# Altium footprint library PCB0131.PcbLib: 13 footprints
Each footprint in its own frame and in the unit in brackets; x right, y up, seen from the top. Pads: shape width x height; smd on the part's side, far side on the other; paste and mask are expansions set on the pad; w line width, h text height; cw(c..) or ccw(c..) is an arc to the next point about the centre after c.
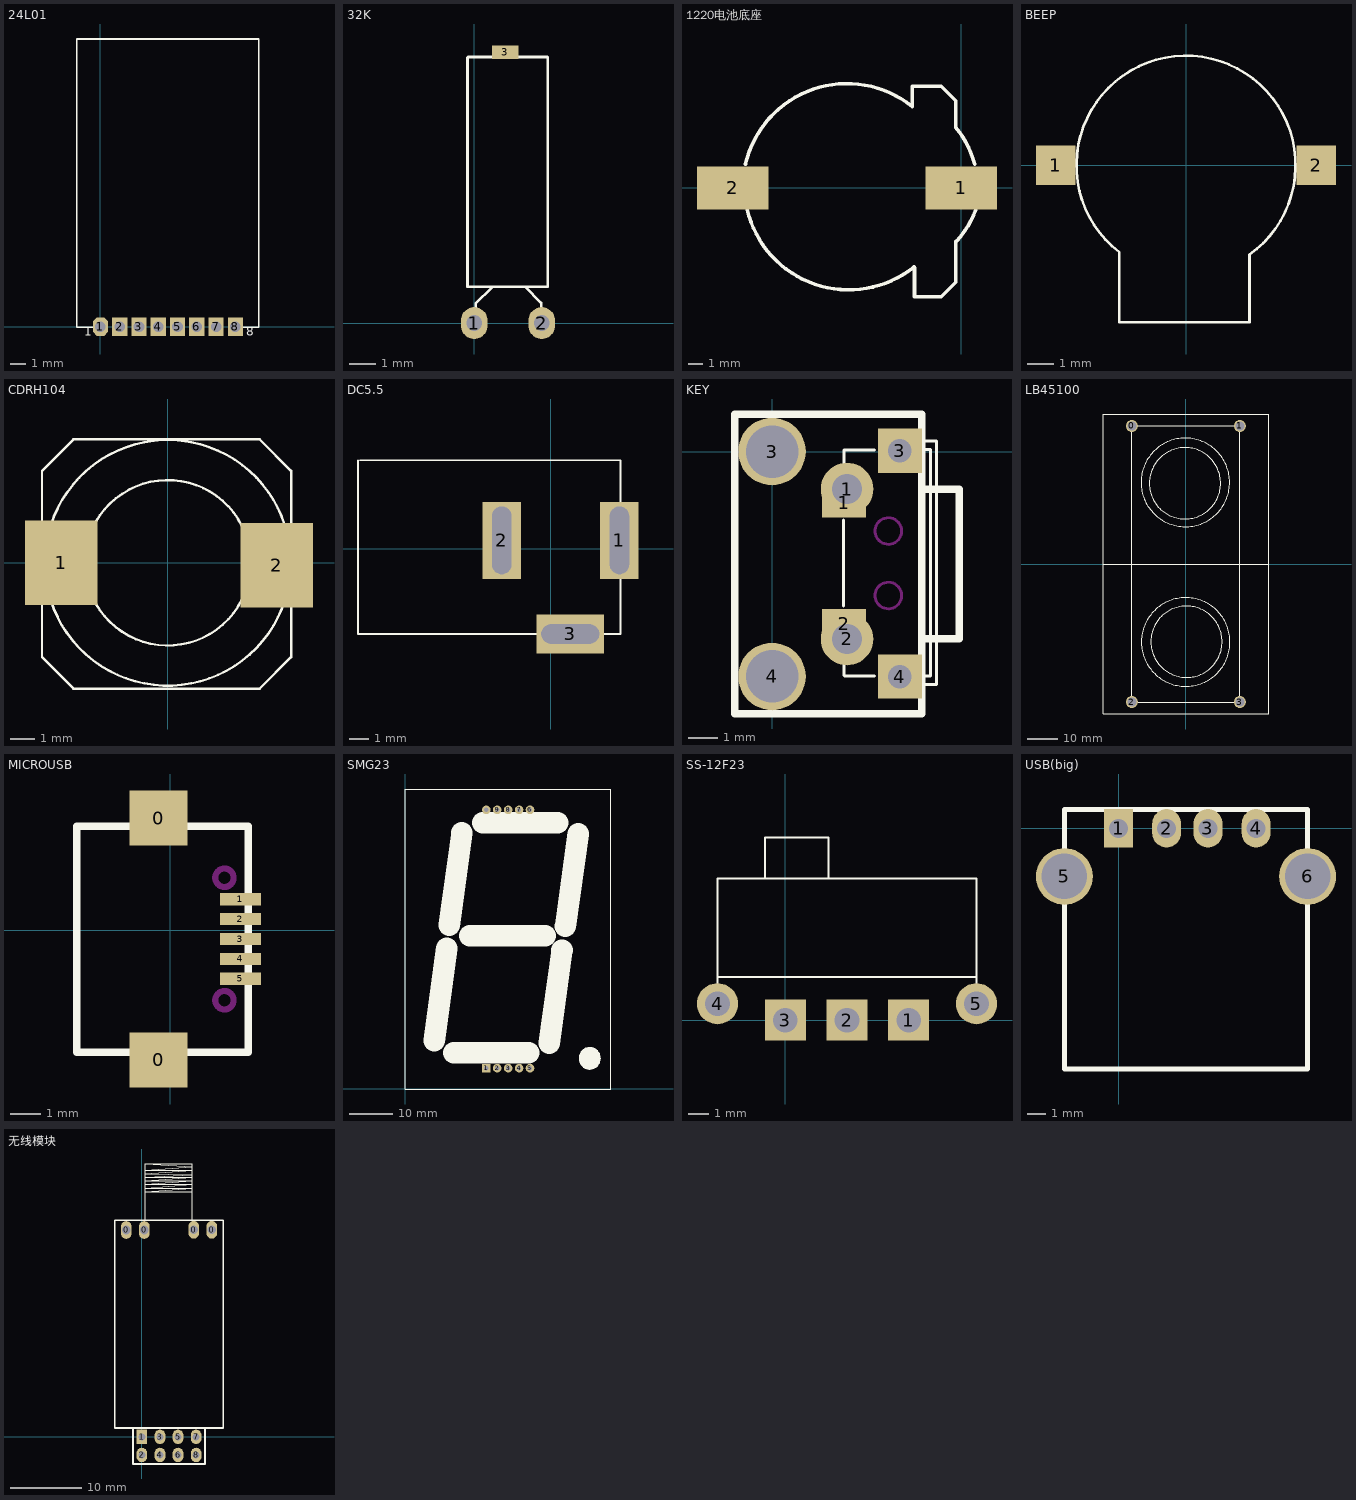
[diagram p0: the footprints below, top view; thin cyan lines are the x and y axes]

## 24L01 [mm]
pads (8):
  oct 1x1.2 hole 0.7: 1(0,0)
  rect 1x1.2 hole 0.7: 2(1.27,0) 3(2.54,0) 4(3.81,0) 5(5.08,0) 6(6.35,0) 7(7.62,0) 8(8.89,0)
Top Overlay:
  lines w0.1: -0.015,-0.049 -1.565,-0.049 -1.565,18.951 10.435,18.951 10.435,-0.049 8.885,-0.049
  text "1" at -1.067,-0.813 h1
  text "8" at 9.601,-0.787 h1

## 32K [mm]
pads (3):
  oval 1x1.2 hole 0.6: 1(0,0) 2(2.54,0)
  rect 1x0.5 smd: 3(1.168,10.185)
Top Overlay:
  lines w0.1: 0.051,0.533 0.051,0.737 0.66,1.346 ; 1.905,1.372 2.515,0.762 2.515,0.559 ; -0.254,1.372 -0.254,9.982 -0.229,10.008 2.743,10.008 2.769,9.982 2.769,1.372 -0.254,1.372

## 1220电池底座 [mm]
pads (2):
  rect 5x3 smd: 1(0,0) 2(-16,0)
Top Overlay:
  lines w0.254: -15.106,1.672 cw(c-8,0) -3.44,5.7 ; -14.985,-1.524 ccw(c-7.882,0.16) -3.312,-5.532 ; -3.428,5.69 -3.428,7.112 -1.396,7.112 -0.38,6.096 -0.38,4.242 ; -3.276,-5.588 -3.276,-7.62 -1.396,-7.62 -0.38,-6.604 -0.38,-3.74 ; -0.389,4.23 cw(c-5.46,0) 0.932,1.662 ; -0.347,-3.74 ccw(c-5.179,0.761) 1.017,-1.524

## BEEP [mm] "蜂鸣器"
height 6
pads (2):
  rect 1.5x1.5 smd: 1(-4.953,0) 2(4.953,0)
Top Overlay:
  lines w0.1: 2.402,-3.403 ccw(c0,0) -2.54,-3.302 -2.54,-5.969 2.413,-5.969 2.413,-3.429

## CDRH104 [mm]
pads (2):
  rect 3x3.5 smd: 1(-4.4,0) 2(4.5,-0.1)
Top Overlay:
  circle w0.1: c0,0 r3.421
  circle w0.1: c0,0 r5.08
  lines w0.1: -5.2,3.5 -5.2,3.8 ; -5.2,-3.9 -5.2,3.8 ; -5.2,-3.9 -3.9,-5.2 ; -5.2,-3.9 -3.9,-5.2 ; -5.2,3.8 -3.9,5.1 ; -5.2,3.8 -3.9,5.1 ; -3.9,-5.2 3.8,-5.2 ; -3.9,5.1 3.8,5.1 ; 3.8,-5.2 5.1,-3.9 ; 3.8,-5.2 5.1,-3.9 ; 3.8,5.1 5.1,3.8 ; 3.8,5.1 5.1,3.8 ; 5.1,-3.9 5.1,3.8

## DC5.5 [mm]
height 11
pads (3):
  rect 2x4 hole 1 slot 3.5 at 90 deg: 1(3.548,0.425) 2(-2.548,0.425)
  rect 3.5x2 hole 1 slot 3 at 0 deg: 3(1.003,-4.425)
Top Overlay:
  lines w0.1: -9.997,4.575 -9.997,-4.425 1.003,-4.425 ; -9.897,4.575 1.003,4.575 3.603,4.575 3.603,-4.425 -1.097,-4.425

## KEY [mil]
pads (8):
  rect 59.06x39.37 smd: 1(96,-68) 2(96,-229.42)
  round 70 hole 40: 1(100,-50) 2(100,-250)
  round 90 hole 70: 3(0,0) 4(0,-300)
  rect 59.06x59.06 hole 31.5: 3(170.56,0.9) 4(170.56,-300.1)
Top Overlay:
  lines w3.94: 95.56,-206.1 95.56,-91.1 ; 96,-254.1 96,-298.54 96.56,-299.1 136.56,-299.1 ; 96,-45.1 96,1.9 136.56,1.9 ; 202.16,-310.5 219.43,-310.5 219.43,-148.1 219.43,14.3 205.16,14.3 ; 202.76,-299.3 211.56,-299.3 211.56,-148.71 ; 204.97,2.49 211.56,2.49 211.56,-148.1
  lines w10: 200,-250 250,-250 250,-50 200,-50 ; -50,-350 200,-350 200,50 -50,50 -50,-350
Keep-Out Layer:
  circle w3.94: c155.06,-192.02 r17.72
  circle w3.94: c155.06,-106.02 r17.72

## LB45100 [mm]
pads (4):
  round 4 hole 3: 0(-18,46) 1(18,46) 2(-18,-46) 3(18,-46)
Top Overlay:
  circle w0.1: c-0.063,-26 r14.763
  circle w0.1: c0.215,-25.9 r11.885
  circle w0.1: c-0.285,26.9 r11.885
  circle w0.1: c-0.163,27.2 r14.763
  lines w0.1: 27.6,0 0,0 -27.5,0 ; -27.5,0 -27.5,-50 27.6,-50 27.6,50 -23.7,50 -27.5,50 -27.5,46.2 -27.5,0 ; -18,-46 -18,46 13.6,46 18,46 18,41.6 18,-46 -18,-46

## MICROUSB [mm]
pads (7):
  rect 1.9x1.8 smd: 0(-0.376,-4.231) 0(-0.376,3.669)
  rect 1.35x0.4 smd: 1(2.3,1.019) 2(2.3,0.369) 3(2.3,-0.281) 4(2.3,-0.931) 5(2.3,-1.581)
Top Overlay:
  lines w0.254: -3.046,-3.981 2.554,-3.981 2.554,3.402 -3.046,3.402 -3.046,-3.967
Keep-Out Layer:
  circle w0.2: c1.775,1.719 r0.3
  circle w0.2: c1.775,-2.281 r0.3

## SMG23 [mm]
pads (10):
  rect 2x2 hole 1: 1(18.847,4.826)
  round 2 hole 1: 2(21.387,4.826) 3(23.927,4.826) 4(26.467,4.826) 5(29.007,4.826) 6(29.007,64.826) 7(26.467,64.826) 8(23.927,64.826) 9(21.387,64.826) 10(18.847,64.826)
Top Overlay:
  circle w0.1: c42.9,7.1 r2.5
  circle w0.5: c42.9,7.1 r2.3
  rectangle: 44,8.7 44.2,9.25
  rectangle: 43.4,9 43.8,9.4
  rectangle: 43,9 43.4,9.6
  rectangle: 42.6,9.2 43,9.6
  rectangle: 42.2,4.7 43.6,5
  rectangle: 41.3,5.2 41.8,6.1
  rectangle: 41.25,8.5 41.75,9
  rectangle: 41,5.5 41.75,6
  rectangle: 43.75,5.5 44.75,6.75
  rectangle: 40.75,5.75 42,6.75
  rectangle: 43.75,7.5 44.75,8.75
  rectangle: 41,7.5 42,8.5
  rectangle: 40.5,6.5 45.25,7.75
  rectangle: 41.75,5 44,9.25
  lines w0.1: -0.003,-0.024 -0.003,69.676 47.797,69.676 47.797,-0.024 28.699,-0.024 -0.003,-0.024
  lines w0.2: 41.2,8.8 41,8.6 41,8.5 40.8,8.3 41,8.3 41.1,8.4 42.9,8.4
  lines w0.5: 42.9,8.4 45,6.3 45,7.7 44.9,7.8 44.9,8.1 44.2,8.8 42.7,8.8 42.3,9.2 41.95,9.2 41.3,8.55 41.3,8.4 40.8,7.9 40.8,6.2 41.5,5.5 42,5 43.6,5 43.9,5.3 44.2,5.3 44.7,5.8 44.7,6.6 44.75,6.65 44.75,6.75
  lines w5: 6.75,11.16 9.694,32.667 ; 10.25,38 13.194,59.508 ; 11.25,8.42 28.75,8.42 ; 15,35.536 32.5,35.536 ; 18,61.786 35.5,61.786 ; 33.5,10.66 36.444,32.167 ; 37.25,37.75 40.194,59.258

## SS-12F23 [mm]
pads (5):
  rect 2x2 hole 1.2: 1(6,0) 2(3,0) 3(0,0)
  round 2 hole 1.2: 4(-3.3,0.8) 5(9.3,0.8)
Top Overlay:
  lines w0.1: -3.3,0 -3.3,0.8 -3.3,6.9 9.3,6.9 9.3,0.8 9.3,0 ; -3.3,2.1 9.3,2.1 ; -1,6.9 -1,8.9 2.1,8.9 2.1,6.9

## USB(big) [mil]
pads (6):
  rect 60x80 hole 39.37: 1(0,0)
  oval 60x80 hole 39.37: 2(100,0) 3(186,0) 4(286,0)
  round 118.11 hole 94.49: 5(-112.43,-100) 6(393,-100)
Top Overlay:
  lines w10: -112.43,-500 393,-500 393,39.37 -112.43,39.37 -112.43,-500

## 无线模块 [mm]
pads (12):
  oval 1.5x2.5 hole 1.2: 0(-2.2,29.1) 0(0.34,29.1) 0(7.29,29.13) 0(9.83,29.13)
  rect 1.5x2.032 hole 1.016: 1(0,0)
  oval 1.5x2.032 hole 1.016: 2(0,-2.54) 3(2.54,0) 4(2.54,-2.54) 5(5.08,0) 6(5.08,-2.54) 7(7.62,0) 8(7.62,-2.54)
Top Overlay:
  lines w0.1: 0.5,30.48 0.5,38.38 ; 7.1,30.5 7.1,38.38 0.5,38.38 ; 7.1,34.5 0.5,34.5 7.1,35 0.5,35 7.1,35.5 0.5,35.5 7.1,36 0.5,36 7.1,36.5 0.5,36.5 7.1,36.9 0.5,37 7.1,37.5 0.5,37.5 7.1,38 0.5,38.38 ; 9.83,29.13 9.83,29.8
  lines w0.254: -1.27,1.27 -3.81,1.27 -3.81,30.48 11.43,30.48 11.43,1.27 8.89,1.27 ; -1.27,1.27 8.89,1.27 ; -1.27,1.27 -1.27,-3.81 8.89,-3.81 8.89,1.27